# EAGLE library part TCA6408A (library My_TI)
TCA6408A Low-Voltage 8-Bit I 2C and SMBus I/O Expander With Interrupt Output, Reset, and Configuration Registers • Operating Power-Supply Voltage Range of 1.65 V to 5.5 V. • 400-kHz Fast I2C Bus Datasheet <http://www.ti.com/lit/ds/symlink/tca6408a.pdf>
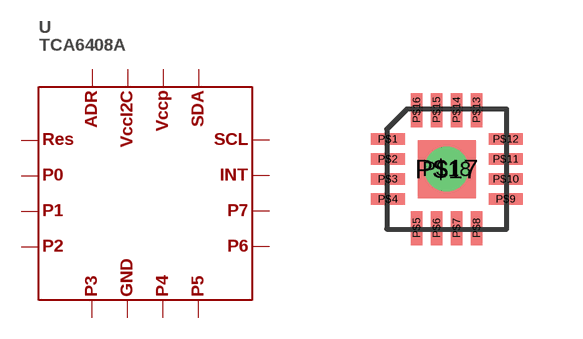
[diagram p53: symbol with the pads of PQFP16_3X3; footprint PQFP16_3X3]

Designator prefix -

## TCA6408A  [PQFP16_3X3]
P$1  P$1
P$2  P$2
P$3  P$3
P$4  P$4
P$5  P$5
P$6  P$6
P$7  P$7
P$8  P$8
P$9  P$9
P$10  P$10
P$11  P$11
P$12  P$12
P$13  P$13
P$14  P$14
P$15  P$15
P$16  P$16
P$17  P$6
P$18  P$6

## Footprint PQFP16_3X3 (pad centres in mm)
smd 0.85 x 0.28: P$1 -1.475,0.75; P$2 -1.475,0.25; P$3 -1.475,-0.25; P$4 -1.475,-0.75; P$9 1.475,-0.75; P$10 1.475,-0.25; P$11 1.475,0.25; P$12 1.475,0.75
smd 0.28 x 0.85: P$5 -0.75,-1.475; P$6 -0.25,-1.475; P$7 0.25,-1.475; P$8 0.75,-1.475; P$13 0.75,1.475; P$14 0.25,1.475; P$15 -0.25,1.475; P$16 -0.75,1.475
smd 1.45 x 1.45: P$17 0,0
drill 0.6: P$18 0,0